# Altium footprint library Switches.PcbLib: 1 footprints
Each footprint in its own frame and in the unit in brackets; x right, y up, seen from the top. Pads: shape width x height; smd on the part's side, far side on the other; paste and mask are expansions set on the pad; w line width, h text height; cw(c..) or ccw(c..) is an arc to the next point about the centre after c.
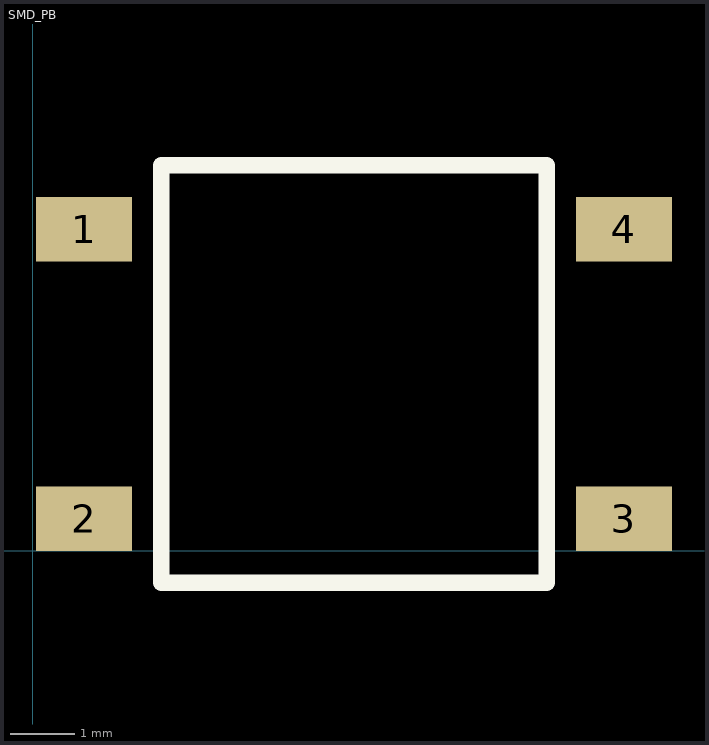
[diagram p0: the footprint, top view; thin cyan lines are the x and y axes]

## SMD_PB [mm] "Surface Mount Push Button (4 PIN)"
pads (6):
  rect 1.5x1 smd: 1(0.8,5) 2(0.8,0.5) 3(9.2,0.5) 4(9.2,5)
  round 0 all layers, no hole: 3(9.2,0.5) 4(9.2,5)
Top Overlay:
  lines w0.254: 2,-0.5 2,6 8,6 8,-0.5 2,-0.5